# EAGLE library part MC-ADEC-10 (library 1A-meinLib)
Freqency Mixer, 7dB, 10..1000MHz, Mini-Circuits
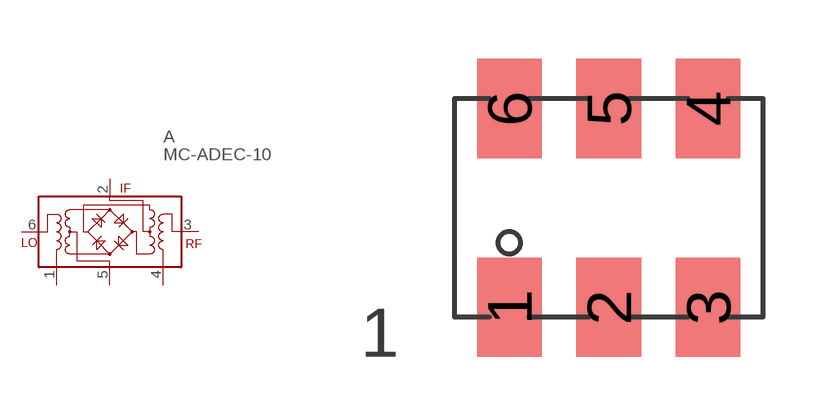
[diagram p13: symbol with the pads of MC-CD542; footprint MC-CD542]

Designator prefix A

## MC-ADEC-10  [MC-CD542]
1  P$3  pas
2  IF  pas
3  RF  pas
4  P$4  pas
5  P$5  pas
6  LO  pas

## Footprint MC-CD542 (pad centres in mm)
smd 1.651 x 2.54: 1 -2.54,-2.54; 2 0,-2.54; 3 2.54,-2.54; 4 2.54,2.54; 5 0,2.54; 6 -2.54,2.54